# Altium schematic symbol library Current Sensor.SchLib: 1 symbol
Pins are listed as number, name and electrical type; pins without a type are passive.

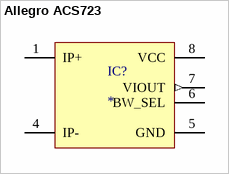
[diagram p0: symbol Allegro ACS723]

## Allegro ACS723
designator IC?
pins: 1 IP+, 4 IP-, 5 GND (power), 6 BW_SEL (power), 7 VIOUT (out), 8 VCC (power)